# EAGLE library part TTP224N (library ft230x_10)
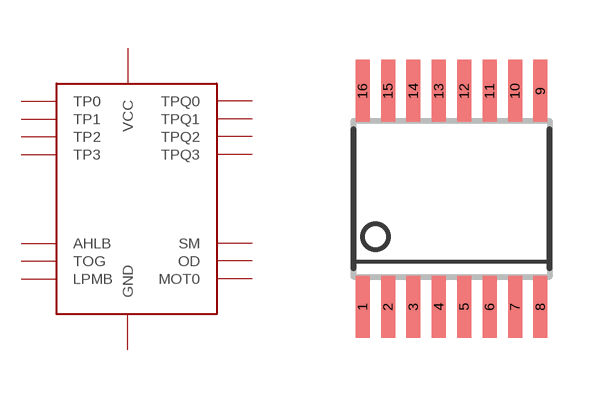
[diagram p1: symbol with the pads of SSOP16; footprint SSOP16]

Designator prefix -

## TTP224N  [SSOP16]
1  TP0
2  TP1
3  TP2
4  TP3
5  AHLB
6  VCC
7  TOG
8  LPMB
9  MOT0
10  GND
11  OD
12  SM
13  TPQ3
14  TPQ2
15  TPQ1
16  TPQ0

## Footprint SSOP16 (pad centres in mm)
SSOP-16 Plastic Shrink Small Outline
smd 0.35 x 1.55: 1 -2.223,-2.7; 2 -1.587,-2.7; 3 -0.953,-2.7; 4 -0.318,-2.7; 5 0.318,-2.7; 6 0.953,-2.7; 7 1.587,-2.7; 8 2.223,-2.7; 9 2.223,2.7; 10 1.587,2.7; 11 0.953,2.7; 12 0.318,2.7; 13 -0.318,2.7; 14 -0.953,2.7; 15 -1.587,2.7; 16 -2.223,2.7